# EAGLE library part TPS62420DRCR (library MF_IC_Power)
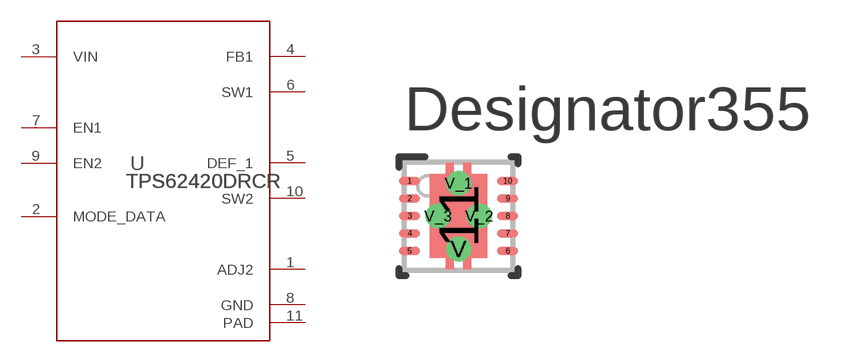
[diagram p1: symbol with the pads of DRC0010J; footprint DRC0010J]

Designator prefix U

## TPS62420DRCR (COPYRIGHT: Copyright (C) 2025 Ultra Librarian. All rights reserved.; MANUFACTURER_PART_NUMBER: TPS62420DRCR; MFR_NAME: Texas Instruments; REFDES: RefDes; TYPE: TYPE)  [DRC0010J]
1  ADJ2  in
2  MODE_DATA
3  VIN  pwr
4  FB1  in
5  DEF_1  in
6  SW1  pwr
7  EN1  in
8  GND  pwr
9  EN2  in
10  SW2  pwr
11  PAD  pwr

## Footprint DRC0010J (pad centres in mm)
smd 0.6 x 0.24: 1 -1.4,1; 2 -1.4,0.5; 3 -1.4,0; 4 -1.4,-0.5; 5 -1.4,-1; 6 1.4,-1; 7 1.4,-0.5; 8 1.4,0; 9 1.4,0.5; 10 1.4,1
smd 1.65 x 2.4: 11 0,0
drill 0.203 pad 0.508: V 0,-0.94; V_1 0,0.94; V_2 0.584,0; V_3 -0.584,0